# EAGLE library part MLX90363 (library added_parts)
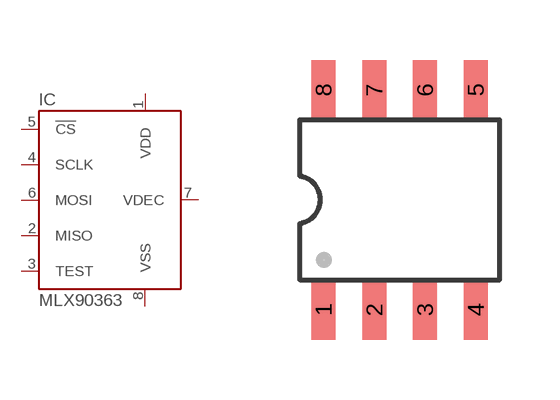
[diagram p42: symbol with the pads of SOIC-8_MLX90363; footprint SOIC-8_MLX90363]

Designator prefix IC

## MLX90363XDC  [SOIC-8_MLX90363]
1  VDD  pwr
2  MISO  out
3  TEST
4  SCLK  in
5  !CS  in
6  MOSI  in
7  VDEC  pas
8  VSS  pwr

## Footprint SOIC-8_MLX90363 (pad centres in mm)
smd 0.6 x 1.5: 1 -1.905,-2.25; 2 -0.635,-2.25; 3 0.635,-2.25; 4 1.905,-2.25; 5 1.905,3.25; 6 0.635,3.25; 7 -0.635,3.25; 8 -1.905,3.25